# EAGLE library part EE2-12NU (library relay)
RELAY GEN PURPOSE DPDT 2A 12V
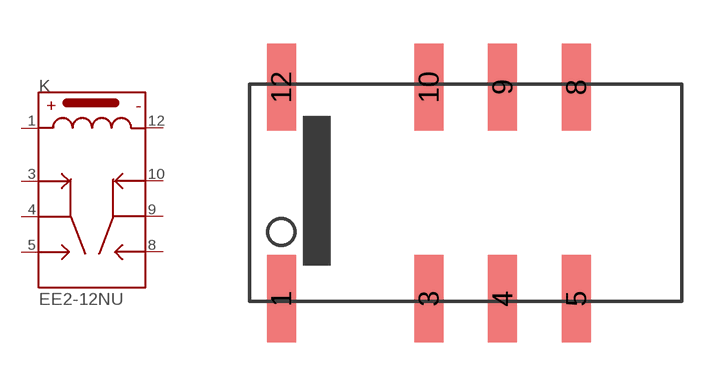
[diagram p0: symbol with the pads of EE2-12NU; footprint EE2-12NU]

Designator prefix K

## EE2-12NU (DIGIKEY: 399-11033-5-ND; MPN: EE2-12NU; P1I: o)  [EE2-12NU]
1  1
3  3
4  4
5  5
8  8
9  9
10  10
12  12

## Footprint EE2-12NU (pad centres in mm)
smd 1 x 3: 1 -6.35,-3.645; 3 -1.27,-3.645; 4 1.27,-3.645; 5 3.81,-3.645; 8 3.81,3.645; 9 1.27,3.645; 10 -1.27,3.645; 12 -6.35,3.645